# Altium footprint library R_mbed_1m.PcbLib: 1 footprints
Each footprint in its own frame and in the unit in brackets; x right, y up, seen from the top. Pads: shape width x height; smd on the part's side, far side on the other; paste and mask are expansions set on the pad; w line width, h text height; cw(c..) or ccw(c..) is an arc to the next point about the centre after c.
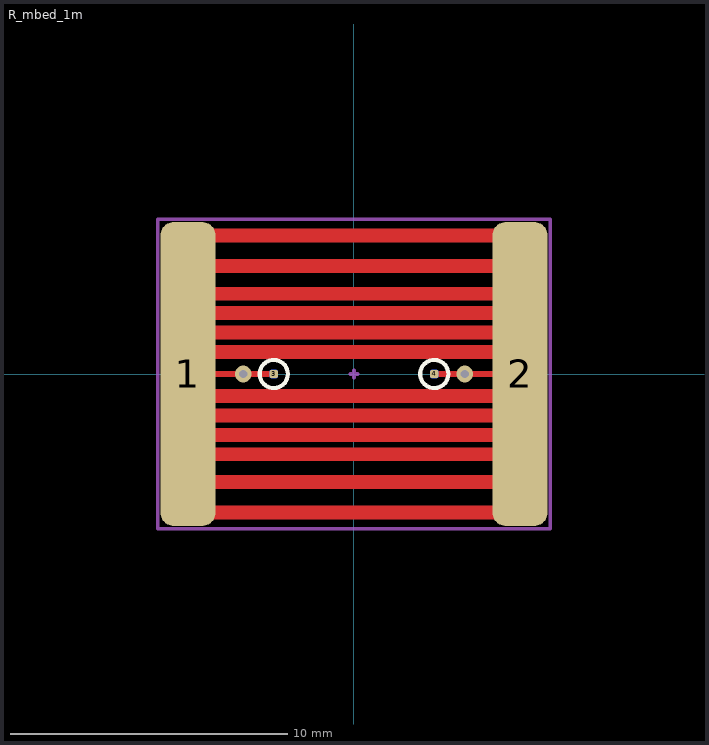
[diagram p0: the footprint, top view; thin cyan lines are the x and y axes]

## R_mbed_1m [mm] "R_mbed_1m"
pads (6):
  rrect50% 2x11 smd paste-2 mask+0.05: 1(-6,0) 2(6,0)
  rrect50% 0.3x0.3 smd far side paste-2 mask+0.1: 3(-2.9,0) 4(2.9,0)
  rrect50% 0.3x0.3 smd paste-2 mask+0.1: 3(-2.9,0) 4(2.9,0)
via 4,0 diameter 0.6 hole 0.3
via -4,0 diameter 0.6 hole 0.3
Top Layer:
  lines w0.2: -5.2,0 -3,0 ; 3,0 5.1,0
  lines w0.5: -5.2,3.9 5,3.9 ; -5.1,-5 5.1,-5 ; -5.1,-3.9 5.1,-3.9 ; -5.1,-2.9 5.1,-2.9 ; -5.1,-2.2 5.1,-2.2 ; -5.1,-1.5 5.1,-1.5 ; -5.1,-0.8 5.1,-0.8 ; -5.1,0.8 5.1,0.8 ; -5.1,1.5 5.1,1.5 ; -5.1,2.2 5.1,2.2 ; -5.1,2.9 5.1,2.9 ; -5.1,5 5.1,5
Bottom Layer:
  lines w0.2: -4,0 -2.9,0 ; 2.9,0 4,0
Top Overlay:
  circle w0.15: c2.9,0 r0.51
  circle w0.15: c-2.9,0 r0.51
Top Assembly:
  lines w0.127: -7.1,-5.6 7.1,-5.6 7.1,5.6 -7.1,5.6 -7.1,-5.6
Top Courtyard:
  lines w0.127: -0.127,0 0.127,0 ; 0,-0.127 0,0.127 ; -7.1,-5.6 -7.1,5.6 7.1,5.6 7.1,-5.6 -7.1,-5.6